# Altium footprint library 8 SO-EP.PcbLib: 1 footprints
Each footprint in its own frame and in the unit in brackets; x right, y up, seen from the top. Pads: shape width x height; smd on the part's side, far side on the other; paste and mask are expansions set on the pad; w line width, h text height; cw(c..) or ccw(c..) is an arc to the next point about the centre after c.
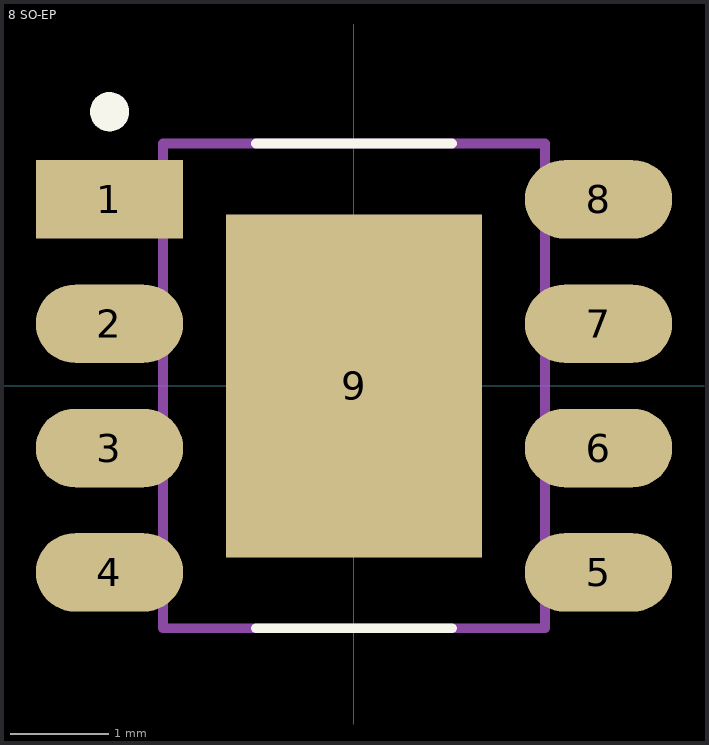
[diagram p0: the footprint, top view; thin cyan lines are the x and y axes]

## 8 SO-EP [mm]
pads (9):
  rect 1.505x0.802 smd mask+0: 1(-2.497,1.905)
  oval 1.505x0.802 smd mask+0: 2(-2.497,0.635) 3(-2.497,-0.635) 4(-2.497,-1.905) 5(2.498,-1.905) 6(2.498,-0.635) 7(2.498,0.635) 8(2.498,1.905)
  rect 2.613x3.502 smd mask+0: 9(0,0)
Top Overlay:
  circle w0.2: c-2.497,2.8 r0.1
  lines w0.1: -1,-2.475 1,-2.475 ; -1,2.475 1,2.475
Mechanical 13 (Mech13):
  lines w0.1: -1.95,-2.475 1.95,-2.475 1.95,2.475 -1.95,2.475 -1.95,-2.475
Mechanical 15 (Mech15):
  lines w0.1: -0.4,0 0,0 ; 0,-0.4 0,0 ; 0,0.4 0,0 ; 0.4,0 0,0
3D body "8 SO-EP.stp": height 1.5, standoff 0, extent -1.95,-2.475 1.95,2.475